# EAGLE library part ATTINY412-SSN-DUINO* (library dpx-Microcontroller)
8-bit Microcontrollers - MCU 20MHz, 4KB, SOIC8, Ind 105C, Green, Tube Source: Datasheet <http://www.microchip.com/mymicrochip/filehandler.aspx?ddocname=en599382>
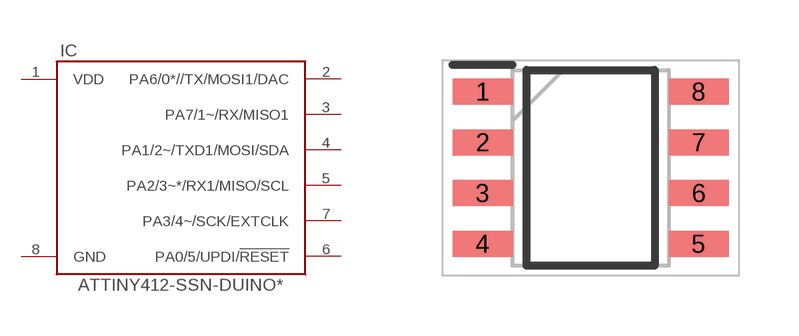
[diagram p6: symbol with the pads of SOIC127P600X175-8N; footprint SOIC127P600X175-8N]

Designator prefix IC

## ATTINY412-SSN-DUINO  [SOIC127P600X175-8N]
1  VDD
2  PA6/0*//TX/MOSI1/DAC
3  PA7/1~/RX/MISO1
4  PA1/2~/TXD1/MOSI/SDA
5  PA2/3~*/RX1/MISO/SCL
6  PA0/5/UPDI/!RESET!
7  PA3/4~/SCK/EXTCLK
8  GND

## Footprint SOIC127P600X175-8N (pad centres in mm)
SOIC -N
smd 1.5 x 0.65: 1 -2.7,1.905; 2 -2.7,0.635; 3 -2.7,-0.635; 4 -2.7,-1.905; 5 2.7,-1.905; 6 2.7,-0.635; 7 2.7,0.635; 8 2.7,1.905